# EAGLE library part ADL5375 (library mr_radar)
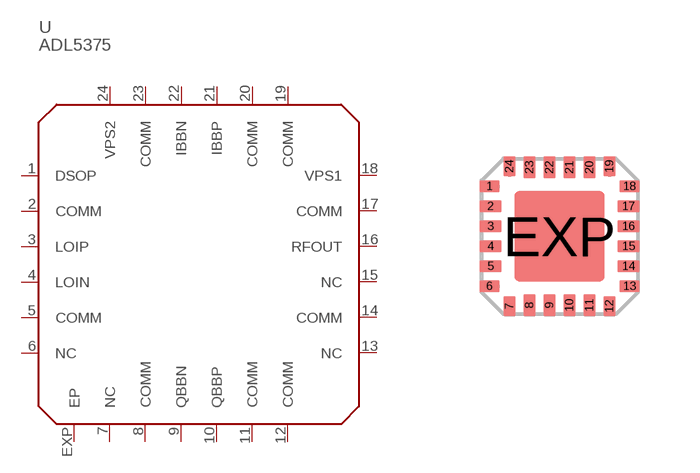
[diagram p12: symbol with the pads of LFCSP24; footprint LFCSP24]

Designator prefix -

## ADL5375  [LFCSP24]
1  DSOP
2  COMM
3  LOIP
4  LOIN
5  COMM
6  NC  nc
7  NC  nc
8  COMM
9  QBBN
10  QBBP
11  COMM
12  COMM
13  NC  nc
14  COMM
15  NC  nc
16  RFOUT
17  COMM
18  VPS1
19  COMM
20  COMM
21  IBBP
22  IBBN
23  COMM
24  VPS2
EXP  EP

## Footprint LFCSP24 (pad centres in mm)
24-Lead Lead Frame Chip Scale Package 4 mm × 4 mm (CP-24) Source: www.analog.com .. 3832984220209AD8133_0.pdf
smd 0.5 x 0.3: 1 -1.75,1.25; 6 -1.75,-1.25; 13 1.75,-1.25; 18 1.75,1.25
smd 0.55 x 0.3: 2 -1.725,0.75; 3 -1.725,0.25; 4 -1.725,-0.25; 5 -1.725,-0.75; 14 1.725,-0.75; 15 1.725,-0.25; 16 1.725,0.25; 17 1.725,0.75
smd 0.3 x 0.5: 7 -1.25,-1.75; 12 1.25,-1.75; 19 1.25,1.75; 24 -1.25,1.75
smd 0.3 x 0.55: 8 -0.75,-1.725; 9 -0.25,-1.725; 10 0.25,-1.725; 11 0.75,-1.725; 20 0.75,1.725; 21 0.25,1.725; 22 -0.25,1.725; 23 -0.75,1.725
smd 2.25 x 2.25: EXP 0,0